# EAGLE library part LMC555 (library My Library)
CMOS TIMER
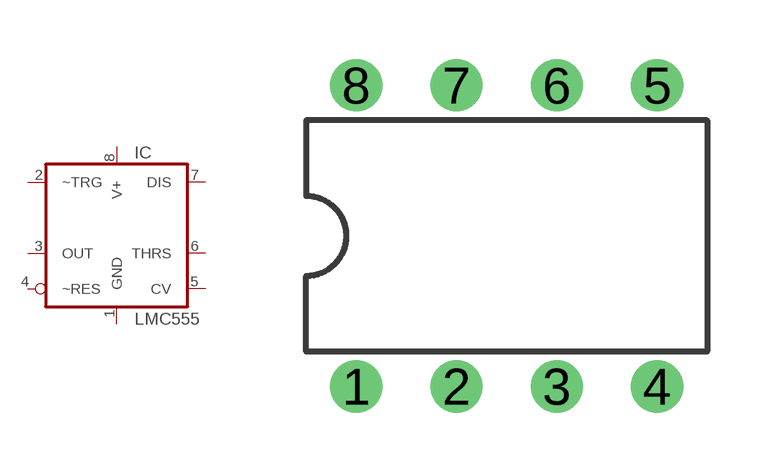
[diagram p0: symbol with the pads of DIL08; footprint DIL08]

Designator prefix IC

## LMC555N  [DIL08]
1  GND  pwr
2  ~TRG  in
3  OUT  out
4  ~RES  in
5  CV  in
6  THRS  in
7  DIS  out
8  V+  pwr

## Footprint DIL08 (pad centres in mm)
Dual In Line Package
drill 0.813 pad 1.27: 1 -3.81,-3.81; 2 -1.27,-3.81; 3 1.27,-3.81; 4 3.81,-3.81; 5 3.81,3.81; 6 1.27,3.81; 7 -1.27,3.81; 8 -3.81,3.81